# Altium footprint library Vertical, Single-Row, Flange Mount with Tab.PcbLib: 34 footprints (part 2 of 3)
Each footprint in its own frame and in the unit in brackets; x right, y up, seen from the top. Pads: shape width x height; smd on the part's side, far side on the other; paste and mask are expansions set on the pad; w line width, h text height; cw(c..) or ccw(c..) is an arc to the next point about the centre after c.
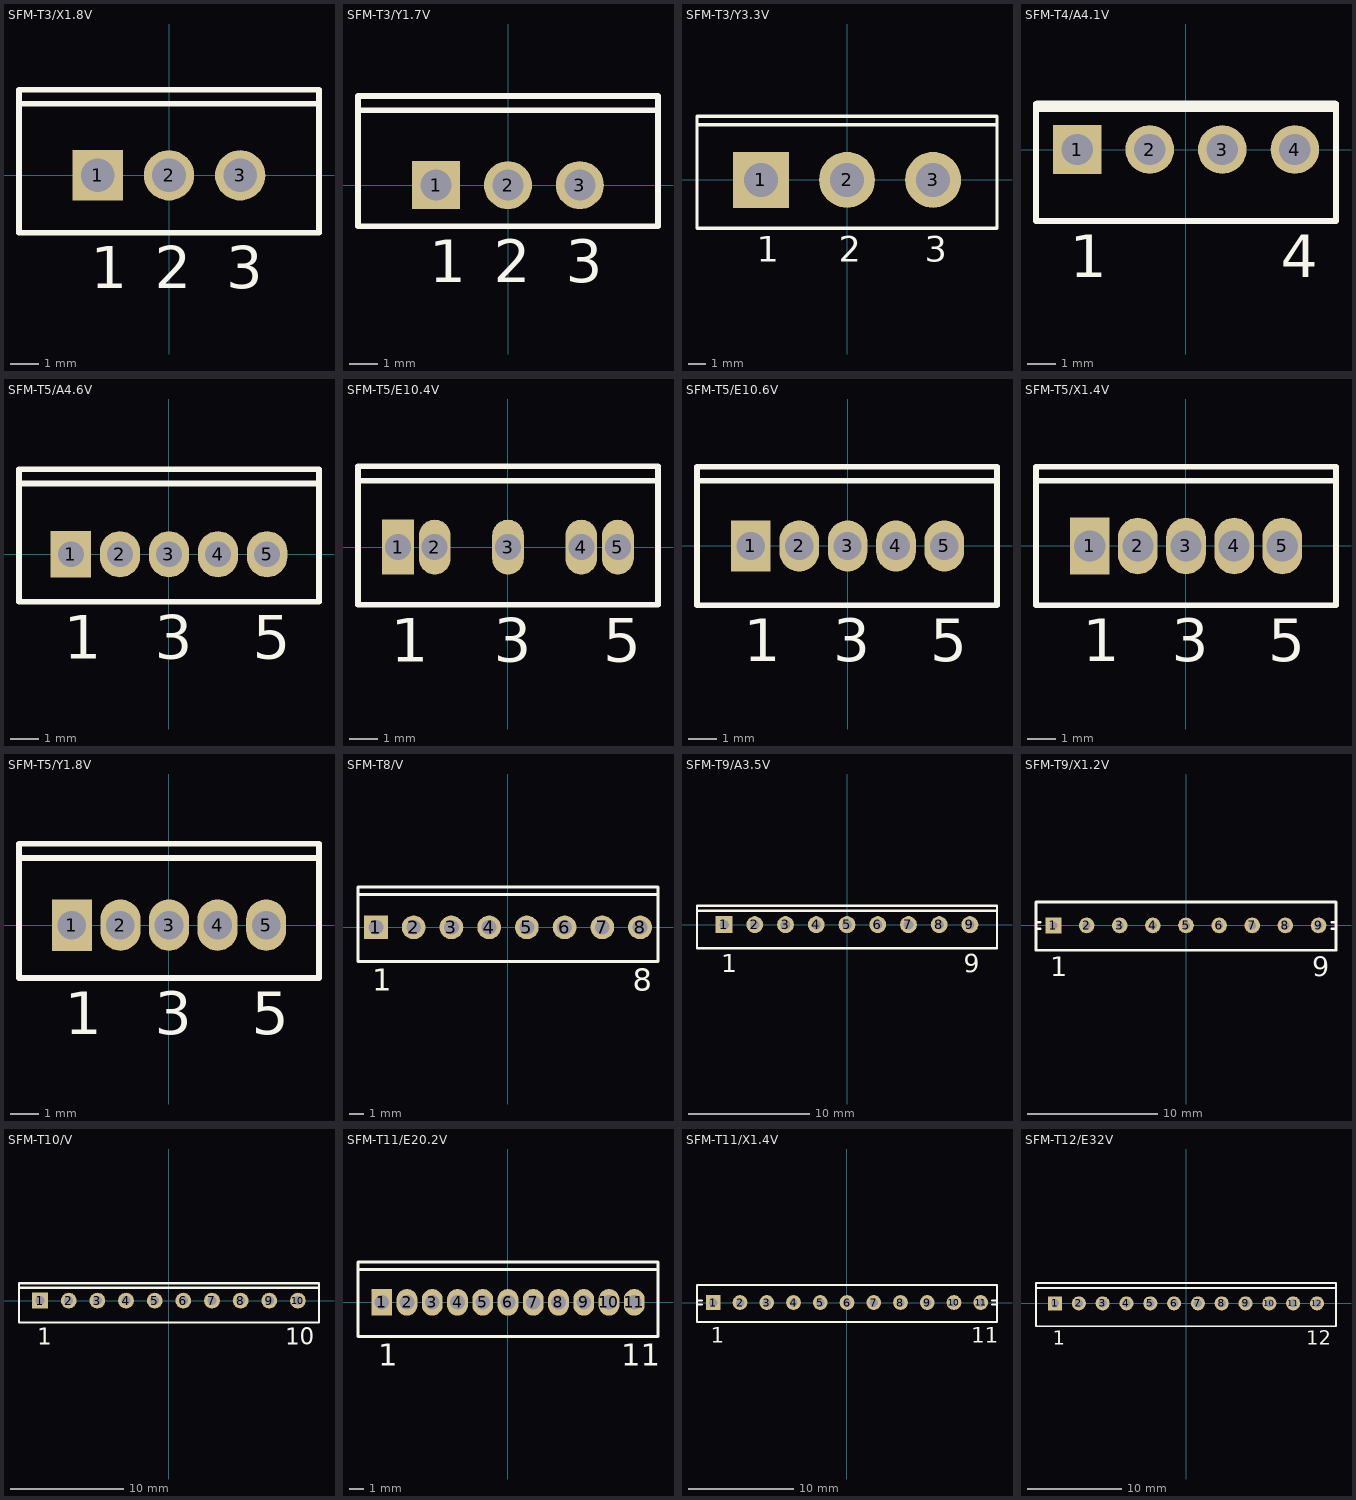
[diagram p1: the footprints below, top view; thin cyan lines are the x and y axes]

## SFM-T3/X1.8V [mm] "TO, Thru-Hole, Vertical, Heatsink Mounted; 3 In-Line Leads; Pitch 2.54 mm"
height 17.8
pads (3):
  rect 1.8x1.8 hole 1.2: 1(-2.54,0)
  round 1.8 hole 1.2: 2(0,0) 3(2.54,0)
Top Overlay:
  lines w0.2: -5.35,2.55 5.35,2.55 ; -5.35,-2.05 -5.35,3.05 5.35,3.05 5.35,-2.05 -5.35,-2.05
  text "1" at -2.79,-4.025 h1.5
  text "2" at -0.5,-4.025 h1.5
  text "3" at 2.04,-4.025 h1.5

## SFM-T3/Y1.7V [mm] "TO, Thru-Hole, Vertical, Heatsink Mounted; 3 In-Line Leads; Pitch 2.54 mm"
height 19.2
pads (3):
  rect 1.7x1.7 hole 1.1: 1(-2.54,0)
  round 1.7 hole 1.1: 2(0,0) 3(2.54,0)
Top Overlay:
  lines w0.2: -5.3,2.65 5.3,2.65 ; -5.3,-1.45 5.3,-1.45 5.3,3.15 -5.3,3.15 -5.3,-1.45
  text "1" at -2.79,-3.425 h1.5
  text "2" at -0.5,-3.425 h1.5
  text "3" at 2.04,-3.425 h1.5

## SFM-T3/Y3.3V [mm] "TO, Thru-Hole, Vertical, Heatsink Mounted; 3 In-Line Leads; Pitch 5.08 mm"
height 21
pads (3):
  rect 3.3x3.3 hole 2: 1(-5.08,0)
  round 3.3 hole 2: 2(0,0) 3(5.08,0)
Top Overlay:
  lines w0.2: -8.85,3.25 8.85,3.25 ; -8.85,-2.85 8.85,-2.85 8.85,3.75 -8.85,3.75 -8.85,-2.85
  text "1" at -5.33,-4.825 h1.5
  text "2" at -0.5,-4.825 h1.5
  text "3" at 4.58,-4.825 h1.5

## SFM-T4/A4.1V [mm] "TO, Thru-Hole, Vertical, Heatsink Mounted; 4 In-Line Leads; Pitch 2.54 mm"
height 20.6
pads (4):
  rect 1.7x1.7 hole 1.1: 1(-3.81,0)
  round 1.7 hole 1.1: 2(-1.27,0) 3(1.27,0) 4(3.81,0)
Top Overlay:
  rectangle: -5.25,1.311 5.25,1.711
  lines w0.2: -5.25,1.6 -5.25,-2.5 5.25,-2.5 5.25,1.6
  text "4" at 3.31,-4.475 h1.5
  text "1" at -4.06,-4.475 h1.5

## SFM-T5/A4.6V [mm] "TO, Thru-Hole, Vertical, Heatsink Mounted; 5 In-Line Leads; Pitch 1.70 mm"
height 15.1
pads (5):
  rect 1.4x1.6 hole 0.9: 1(-3.4,0)
  oval 1.4x1.6 hole 0.9: 2(-1.7,0) 3(0,0) 4(1.7,0) 5(3.4,0)
Top Overlay:
  lines w0.2: -5.2,2.45 5.2,2.45 ; -5.2,-1.65 5.2,-1.65 5.2,2.95 -5.2,2.95 -5.2,-1.65
  text "1" at -3.65,-3.625 h1.5
  text "3" at -0.5,-3.625 h1.5
  text "5" at 2.9,-3.625 h1.5

## SFM-T5/E10.4V [mm] "TO, Thru-Hole, Vertical, Heatsink Mounted; 5 In-Line Leads; Uneven Pitch"
height 15.8
pads (5):
  rect 1.1x1.9 hole 0.9: 1(-3.81,0)
  oval 1.1x1.9 hole 0.9: 2(-2.54,0) 3(0,0) 4(2.54,0) 5(3.81,0)
Top Overlay:
  lines w0.2: -5.2,2.3 5.2,2.3 ; -5.2,-2 5.2,-2 5.2,2.8 -5.2,2.8 -5.2,-2
  text "1" at -4.06,-3.975 h1.5
  text "3" at -0.5,-3.975 h1.5
  text "5" at 3.31,-3.975 h1.5

## SFM-T5/E10.6V [mm] "TO, Thru-Hole, Vertical, Heatsink Mounted; 5 In-Line Leads; Pitch 1.71 mm"
height 15.2
pads (5):
  rect 1.4x1.8 hole 1: 1(-3.42,0)
  oval 1.4x1.8 hole 1: 2(-1.71,0) 3(0,0) 4(1.71,0) 5(3.42,0)
Top Overlay:
  lines w0.2: -5.32,2.3 5.28,2.3 ; -5.32,-2.1 -5.32,2.8 5.28,2.8 5.28,-2.1 -5.32,-2.1
  text "5" at 2.92,-4.075 h1.5
  text "3" at -0.5,-4.075 h1.5
  text "1" at -3.67,-4.075 h1.5

## SFM-T5/X1.4V [mm] "TO, Thru-Hole, Vertical, Heatsink Mounted; 5 In-Line Leads; Pitch 1.70 mm"
height 15.9
pads (5):
  rect 1.4x2 hole 1.1: 1(-3.4,0)
  oval 1.4x2 hole 1.1: 2(-1.7,0) 3(0,0) 4(1.7,0) 5(3.4,0)
Top Overlay:
  lines w0.2: -5.3,2.3 5.3,2.3 ; -5.3,-2.1 -5.3,2.8 5.3,2.8 5.3,-2.1 -5.3,-2.1
  text "5" at 2.9,-4.075 h1.5
  text "3" at -0.5,-4.075 h1.5
  text "1" at -3.65,-4.075 h1.5

## SFM-T5/Y1.8V [mm] "TO, Thru-Hole, Vertical, Heatsink Mounted; 5 In-Line Leads; Pitch 1.70 mm"
height 15.1
pads (5):
  rect 1.4x1.8 hole 1: 1(-3.4,0)
  oval 1.4x1.8 hole 1: 2(-1.7,0) 3(0,0) 4(1.7,0) 5(3.4,0)
Top Overlay:
  lines w0.2: -5.25,2.35 5.25,2.35 ; -5.25,-1.85 -5.25,2.85 5.25,2.85 5.25,-1.85 -5.25,-1.85
  text "5" at 2.9,-3.825 h1.5
  text "3" at -0.5,-3.825 h1.5
  text "1" at -3.65,-3.825 h1.5

## SFM-T8/V [mm] "TO, Thru-Hole, Vertical, Heatsink Mounted; 8 In-Line Leads; Pitch 2.54 mm"
height 20.5
pads (8):
  rect 1.6x1.6 hole 1: 1(-8.89,0)
  round 1.6 hole 1: 2(-6.35,0) 3(-3.81,0) 4(-1.27,0) 5(1.27,0) 6(3.81,0) 7(6.35,0) 8(8.89,0)
Top Overlay:
  lines w0.2: -10.1,2.2 10.1,2.2 ; -10.1,-2.3 10.1,-2.3 10.1,2.7 -10.1,2.7 -10.1,-2.3
  text "1" at -9.14,-4.275 h1.5
  text "8" at 8.39,-4.275 h1.5

## SFM-T9/A3.5V [mm] "TO, Thru-Hole, Vertical, Heatsink Mounted; 9 In-Line Leads; Pitch 2.54 mm"
height 18.1
pads (9):
  rect 1.4x1.4 hole 0.8: 1(-10.16,0)
  round 1.4 hole 0.8: 2(-7.62,0) 3(-5.08,0) 4(-2.54,0) 5(0,0) 6(2.54,0) 7(5.08,0) 8(7.62,0) 9(10.16,0)
Top Overlay:
  lines w0.2: -12.4,1.15 12.4,1.15 ; -12.4,-1.95 12.4,-1.95 12.4,1.55 -12.4,1.55 -12.4,-1.95
  text "1" at -10.41,-3.925 h1.5
  text "9" at 9.66,-3.925 h1.5

## SFM-T9/X1.2V [mm] "TO, Thru-Hole, Vertical, Heatsink Mounted; 9 In-Line Leads; Pitch 2.54 mm"
height 18.8
pads (9):
  rect 1.2x1.2 hole 0.6: 1(-10.16,0)
  round 1.2 hole 0.6: 2(-7.62,0) 3(-5.08,0) 4(-2.54,0) 5(0,0) 6(2.54,0) 7(5.08,0) 8(7.62,0) 9(10.16,0)
Top Overlay:
  lines w0.2: -11.5,-0.25 -11.16,-0.25 ; -11.5,0.25 -11.16,0.25 ; 11.16,-0.25 11.5,-0.25 ; 11.16,0.25 11.5,0.25 ; -11.5,-1.9 -11.5,1.8 11.5,1.8 11.5,-1.9 -11.5,-1.9
  text "9" at 9.66,-3.875 h1.5
  text "1" at -10.41,-3.875 h1.5

## SFM-T10/V [mm] "TO, Thru-Hole, Vertical, Heatsink Mounted; 10 In-Line Leads; Pitch 2.54 mm"
height 18.1
pads (10):
  rect 1.4x1.4 hole 0.8: 1(-11.43,0)
  round 1.4 hole 0.8: 2(-8.89,0) 3(-6.35,0) 4(-3.81,0) 5(-1.27,0) 6(1.27,0) 7(3.81,0) 8(6.35,0) 9(8.89,0) 10(11.43,0)
Top Overlay:
  lines w0.2: -13.3,1.15 13.3,1.15 ; -13.3,-1.95 -13.3,1.55 13.3,1.55 13.3,-1.95 -13.3,-1.95
  text "10" at 10.305,-3.925 h1.5
  text "1" at -11.68,-3.925 h1.5

## SFM-T11/E20.2V [mm] "TO, Thru-Hole, Vertical, Heatsink Mounted; 11 In-Line Leads; Pitch 1.70 mm"
height 17.8
pads (11):
  rect 1.4x1.8 hole 1: 1(-8.5,0)
  oval 1.4x1.8 hole 1: 2(-6.8,0) 3(-5.1,0) 4(-3.4,0) 5(-1.7,0) 6(0,0) 7(1.7,0) 8(3.4,0) 9(5.1,0) 10(6.8,0) 11(8.5,0)
Top Overlay:
  lines w0.2: -10.1,2.2 10.1,2.2 ; -10.1,-2.3 10.1,-2.3 10.1,2.7 -10.1,2.7 -10.1,-2.3
  text "1" at -8.75,-4.275 h1.5
  text "11" at 7.625,-4.275 h1.5

## SFM-T11/X1.4V [mm] "TO, Thru-Hole, Vertical, Heatsink Mounted; 11 In-Line Leads; Pitch 2.54 mm"
height 15
pads (11):
  rect 1.4x1.4 hole 0.8: 1(-12.7,0)
  round 1.4 hole 0.8: 2(-10.16,0) 3(-7.62,0) 4(-5.08,0) 5(-2.54,0) 6(0,0) 7(2.54,0) 8(5.08,0) 9(7.62,0) 10(10.16,0) 11(12.7,0)
Top Overlay:
  lines w0.2: -14.25,-0.191 -13.8,-0.191 ; -14.25,0.191 -13.8,0.191 ; 13.8,-0.191 14.25,-0.191 ; 13.8,0.191 14.25,0.191 ; -14.25,-1.85 -14.25,1.65 14.25,1.65 14.25,-1.85 -14.25,-1.85
  text "11" at 11.825,-3.825 h1.5
  text "1" at -12.95,-3.825 h1.5

## SFM-T12/E32V [mm] "TO, Thru-Hole, Vertical, Heatsink Mounted; 12 In-Line Leads; Pitch 2.54 mm"
height 17.9
pads (12):
  rect 1.5x1.5 hole 0.9: 1(-13.97,0)
  round 1.5 hole 0.9: 2(-11.43,0) 3(-8.89,0) 4(-6.35,0) 5(-3.81,0) 6(-1.27,0) 7(1.27,0) 8(3.81,0) 9(6.35,0) 10(8.89,0) 11(11.43,0) 12(13.97,0)
Top Overlay:
  lines w0.2: -16,1.65 16,1.65 ; -16,-2.45 16,-2.45 16,2.15 -16,2.15 -16,-2.45
  text "1" at -14.22,-4.425 h1.5
  text "12" at 12.845,-4.425 h1.5